# Altium schematic symbol library eUSR_SchLibrary - Transistors.SchLib: 11 symbols
Pins are listed as number, name and electrical type; pins without a type are passive.

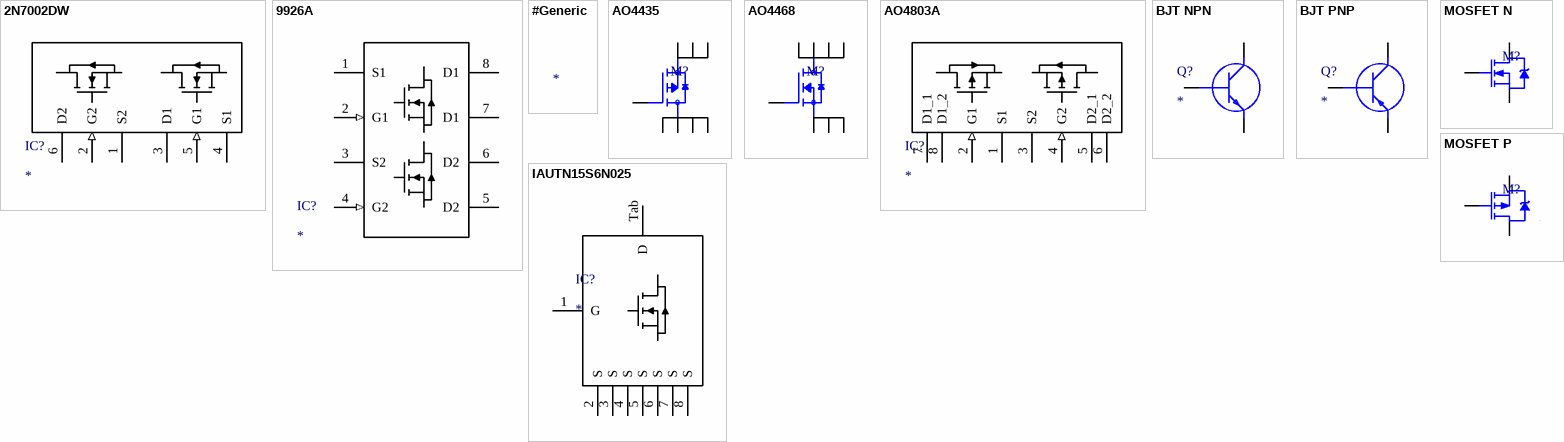
[diagram p0: symbols 2N7002DW to MOSFET P]

## 2N7002DW
designator IC?
ComponentLink1Description: Datasheet; ComponentLink1URL: *; ComponentLink2Description: Distributor Link; ComponentLink2URL: *
pins: 1 S2 (power), 2 G2 (in), 3 D1 (power), 4 S1 (power), 5 G1 (in), 6 D2 (power)

## 9926A
designator IC?
ComponentLink1Description: Datasheet; ComponentLink1URL: *; ComponentLink2Description: Distributor Link; ComponentLink2URL: *
pins: 1 S1 (power), 2 G1 (in), 3 S2 (power), 4 G2 (in), 5 D2 (power), 6 D2 (power), 7 D1 (power), 8 D1 (power)

## #Generic
designator ?
Manufacturing: #####; Value: #####; Package: #####; Price: #####; PN: #####; ComponentLink1Description: Datasheet; ComponentLink1URL: #####; ComponentLink2Description: Distributor Link; ComponentLink2URL: #####; Distributor: #####; Distributor PN: #####

## AO4435
designator M?  (value not drawn)
ComponentLink1Description: Datasheet; ComponentLink1URL: *; ComponentLink2Description: Distributor Link; ComponentLink2URL: *
pins: 1 D, 2 D, 3 D, 4 G, 5 D, 6 D, 7 D, 8 D

## AO4468
designator M?  (value not drawn)
ComponentLink1Description: Datasheet; ComponentLink1URL: *; ComponentLink2Description: Distributor Link; ComponentLink2URL: *
pins: 1 S, 2 S, 3 S, 4 G, 5 D, 6 D, 7 D, 8 D

## AO4803A
designator IC?
ComponentLink1Description: Datasheet; ComponentLink1URL: *; ComponentLink2Description: Distributor Link; ComponentLink2URL: *
pins: 1 S1 (power), 2 G1 (in), 3 S2 (power), 4 G2 (in), 5 D2_1 (power), 6 D2_2 (power), 7 D1_1 (power), 8 D1_2 (power)

## BJT NPN
designator Q?
Transistor BJT NPN; ComponentLink1Description: Datasheet; ComponentLink1URL: *; ComponentLink2Description: Distributor Link; ComponentLink2URL: *
pins: 1 B, 2 E, 3 C

## BJT PNP
designator Q?
Transistor BJT NPN; ComponentLink1Description: Datasheet; ComponentLink1URL: *; ComponentLink2Description: Distributor Link; ComponentLink2URL: *
pins: 1 B, 2 E, 3 C

## IAUTN15S6N025
designator IC?
ComponentLink1Description: Datasheet; ComponentLink1URL: *; ComponentLink2Description: Distributor Link; ComponentLink2URL: *
pins: 1 G, 2 S (power), 3 S (power), 4 S (power), 5 S (power), 6 S (power), 7 S (power), 8 S (power), Tab D (power)

## MOSFET N
designator M?  (value not drawn)
ComponentLink1Description: Datasheet; ComponentLink1URL: *; ComponentLink2Description: Distributor Link; ComponentLink2URL: *
pins: 1 G, 2 S, 3 D

## MOSFET P
designator M?
ComponentLink1Description: Datasheet; ComponentLink1URL: *; ComponentLink2Description: Distributor Link; ComponentLink2URL: *
pins: 1 G, 2 S, 3 D